# Altium schematic symbol library TI Interface - Sensor and Detector Interfaces.SchLib: 1 symbol
Pins are listed as number, name and electrical type; pins without a type are passive.

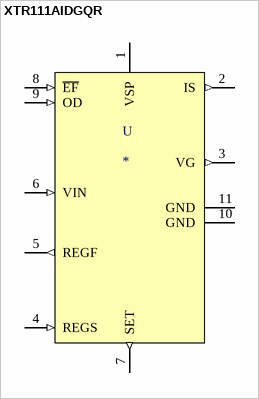
[diagram p0: symbol XTR111AIDGQR]

## XTR111AIDGQR
designator U
Voltage-to-current converter/transmitter with 3-V to 15-V regulator and resistror set I/O ratio</ 10-HVSSOP -40 to 125; MF: Texas Instruments; MP: XTR111AIDGQR; SnapEDA_Link: https://www.snapeda.com/parts/XTR111AIDGQR/Texas%20Instruments/view-part/1101108/?ref=snap; Price: None; Mouser-Purchase-URL: https://snapeda.com/shop?store=Mouser&id=1101108; Value: *; DigiKey-Purchase-URL: https://snapeda.com/shop?store=DigiKey&id=1101108; Package: HVSSOP-10 Texas Instruments; Availability: Warning; Texas_Instruments-Purchase-URL: https://snapeda.com/shop?store=Texas+Instruments&id=1101108
footprint IC_XTR111AIDGQR
pins: 1 VSP (power), 2 IS (out), 3 VG (out), 4 REGS (in), 5 REGF (out), 6 VIN (in), 7 SET (out), 8 ~{EF} (in), 9 OD (in), 10 GND (power), 11 GND (power)